# EAGLE library part SSI2140 (library jason_eagle6)
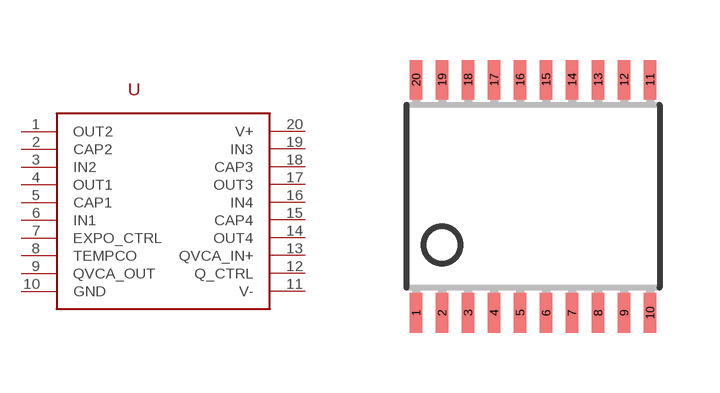
[diagram p72: symbol with the pads of TSSOP20; footprint TSSOP20]

Designator prefix -

## SSI2140  [TSSOP20]
1  OUT2
2  CAP2
3  IN2
4  OUT1
5  CAP1
6  IN1
7  EXPO_CTRL
8  TEMPCO
9  QVCA_OUT
10  GND
11  V-
12  Q_CTRL
13  QVCA_IN+
14  OUT4
15  CAP4
16  IN4
17  OUT3
18  CAP3
19  IN3
20  V+

## Footprint TSSOP20 (pad centres in mm)
smd 0.305 x 0.991: 1 -2.925,-2.918; 2 -2.275,-2.918; 3 -1.625,-2.918; 4 -0.975,-2.918; 5 -0.325,-2.918; 6 0.325,-2.918; 7 0.975,-2.918; 8 1.625,-2.918; 9 2.275,-2.918; 10 2.925,-2.918; 11 2.925,2.918; 12 2.275,2.918; 13 1.625,2.918; 14 0.975,2.918; 15 0.325,2.918; 16 -0.325,2.918; 17 -0.975,2.918; 18 -1.625,2.918; 19 -2.275,2.918; 20 -2.925,2.918